# Altium schematic symbol library Papilio_DUO_1.SCHLIB: 38 symbols
Pins are listed as number, name and electrical type; pins without a type are passive.

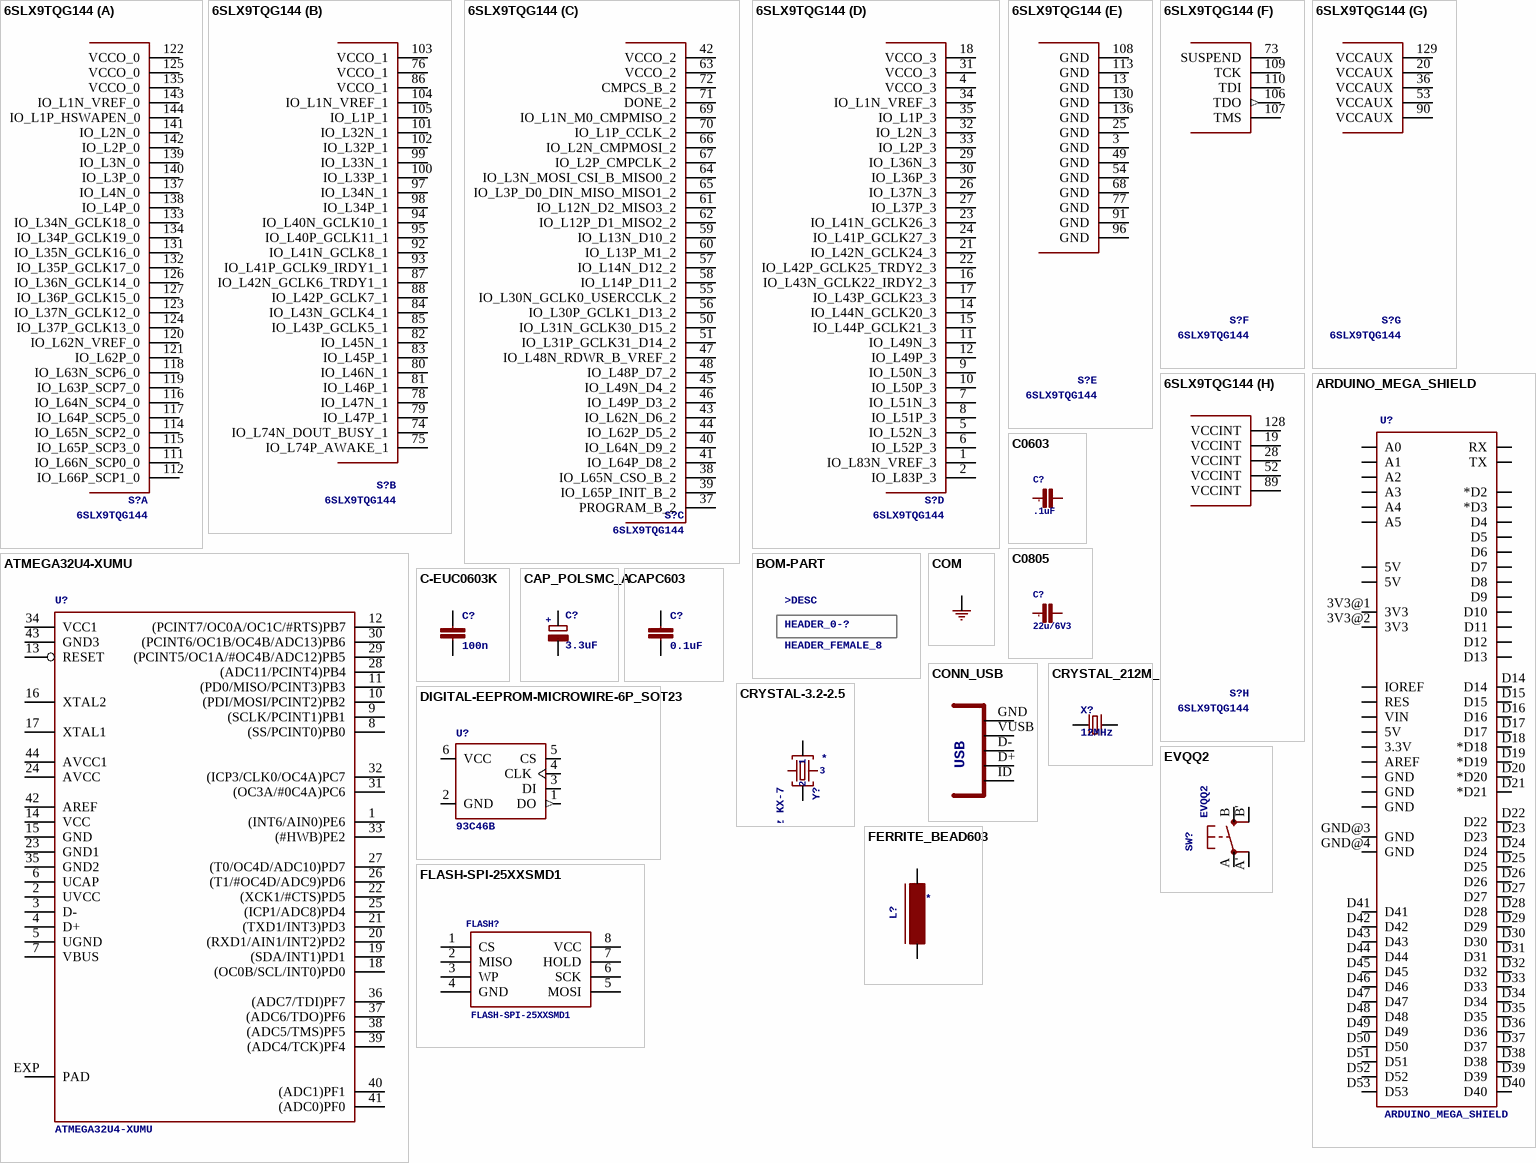
[diagram p0: symbols 6SLX9TQG144 to FLASH-SPI-25XXSMD1]

## 6SLX9TQG144
designator S?
Xilinx FPGA: 6SLX9TQG144; PARTNO: *
footprint TQ144
part A pins: 111 IO_L66N_SCP0_0, 112 IO_L66P_SCP1_0, 114 IO_L65N_SCP2_0, 115 IO_L65P_SCP3_0, 116 IO_L64N_SCP4_0, 117 IO_L64P_SCP5_0, 118 IO_L63N_SCP6_0, 119 IO_L63P_SCP7_0, 120 IO_L62N_VREF_0, 121 IO_L62P_0, 122 VCCO_0, 123 IO_L37N_GCLK12_0, 124 IO_L37P_GCLK13_0, 125 VCCO_0, 126 IO_L36N_GCLK14_0, 127 IO_L36P_GCLK15_0, 131 IO_L35N_GCLK16_0, 132 IO_L35P_GCLK17_0, 133 IO_L34N_GCLK18_0, 134 IO_L34P_GCLK19_0, 135 VCCO_0, 137 IO_L4N_0, 138 IO_L4P_0, 139 IO_L3N_0, 140 IO_L3P_0, 141 IO_L2N_0, 142 IO_L2P_0, 143 IO_L1N_VREF_0, 144 IO_L1P_HSWAPEN_0
part B pins: 74 IO_L74N_DOUT_BUSY_1, 75 IO_L74P_AWAKE_1, 76 VCCO_1, 78 IO_L47N_1, 79 IO_L47P_1, 80 IO_L46N_1, 81 IO_L46P_1, 82 IO_L45N_1, 83 IO_L45P_1, 84 IO_L43N_GCLK4_1, 85 IO_L43P_GCLK5_1, 86 VCCO_1, 87 IO_L42N_GCLK6_TRDY1_1, 88 IO_L42P_GCLK7_1, 92 IO_L41N_GCLK8_1, 93 IO_L41P_GCLK9_IRDY1_1, 94 IO_L40N_GCLK10_1, 95 IO_L40P_GCLK11_1, 97 IO_L34N_1, 98 IO_L34P_1, 99 IO_L33N_1, 100 IO_L33P_1, 101 IO_L32N_1, 102 IO_L32P_1, 103 VCCO_1, 104 IO_L1N_VREF_1, 105 IO_L1P_1
part C pins: 37 PROGRAM_B_2, 38 IO_L65N_CSO_B_2, 39 IO_L65P_INIT_B_2, 40 IO_L64N_D9_2, 41 IO_L64P_D8_2, 42 VCCO_2, 43 IO_L62N_D6_2, 44 IO_L62P_D5_2, 45 IO_L49N_D4_2, 46 IO_L49P_D3_2, 47 IO_L48N_RDWR_B_VREF_2, 48 IO_L48P_D7_2, 50 IO_L31N_GCLK30_D15_2, 51 IO_L31P_GCLK31_D14_2, 55 IO_L30N_GCLK0_USERCCLK_2, 56 IO_L30P_GCLK1_D13_2, 57 IO_L14N_D12_2, 58 IO_L14P_D11_2, 59 IO_L13N_D10_2, 60 IO_L13P_M1_2, 61 IO_L12N_D2_MISO3_2, 62 IO_L12P_D1_MISO2_2, 63 VCCO_2, 64 IO_L3N_MOSI_CSI_B_MISO0_2, 65 IO_L3P_D0_DIN_MISO_MISO1_2, 66 IO_L2N_CMPMOSI_2, 67 IO_L2P_CMPCLK_2, 69 IO_L1N_M0_CMPMISO_2, 70 IO_L1P_CCLK_2, 71 DONE_2, 72 CMPCS_B_2
part D pins: 1 IO_L83N_VREF_3, 2 IO_L83P_3, 4 VCCO_3, 5 IO_L52N_3, 6 IO_L52P_3, 7 IO_L51N_3, 8 IO_L51P_3, 9 IO_L50N_3, 10 IO_L50P_3, 11 IO_L49N_3, 12 IO_L49P_3, 14 IO_L44N_GCLK20_3, 15 IO_L44P_GCLK21_3, 16 IO_L43N_GCLK22_IRDY2_3, 17 IO_L43P_GCLK23_3, 18 VCCO_3, 21 IO_L42N_GCLK24_3, 22 IO_L42P_GCLK25_TRDY2_3, 23 IO_L41N_GCLK26_3, 24 IO_L41P_GCLK27_3, 26 IO_L37N_3, 27 IO_L37P_3, 29 IO_L36N_3, 30 IO_L36P_3, 31 VCCO_3, 32 IO_L2N_3, 33 IO_L2P_3, 34 IO_L1N_VREF_3, 35 IO_L1P_3
part E pins: 3 GND (power), 13 GND (power), 25 GND (power), 49 GND (power), 54 GND (power), 68 GND (power), 77 GND (power), 91 GND (power), 96 GND (power), 108 GND (power), 113 GND (power), 130 GND (power), 136 GND (power)
part F pins: 73 SUSPEND, 106 TDO (out), 107 TMS, 109 TCK, 110 TDI
part G pins: 20 VCCAUX, 36 VCCAUX, 53 VCCAUX, 90 VCCAUX, 129 VCCAUX
part H pins: 19 VCCINT, 28 VCCINT, 52 VCCINT, 89 VCCINT, 128 VCCINT

## ARDUINO_MEGA_SHIELD
designator U?
BOM: *
footprint ARDUINO_MEGA_SHIELD
pins: 3.3V, 3V3@1 3V3 (oe), 3V3@2 3V3 (oe), 5V@0 5V (power), 5V@1 5V (power), 5V@2 5V (power), A0, A1, A2, A3, A4, A5, AREF, D2 *D2, D3 *D3, D4, D5, D6, D7, D8, D9, D10, D11, D12, D13, D14, D15, D16, D17, D18 *D18, D19 *D19, D20 *D20, D21 *D21, D22, D23, D24, D25, D26, D27, D28, D29, D30, D31, D32, D33, D34, D35, D36, D37, D38, D39, D40, D41, D42, D43, D44, D45, D46, D47, D48, D49, D50, D51, D52, D53, GND@0 GND (oe), GND@1 GND (oe), GND@2 GND (oe), GND@3 GND (oe), GND@4 GND (oe), IOREF, RES, RX, TX, VIN

## ATMEGA32U4-XUMU
designator U?
PARTNO: *
footprint QFN44ML7X7
pins: 1 (INT6/AIN0)PE6, 2 UVCC (power), 3 D-, 4 D+, 5 UGND (power), 6 UCAP, 7 VBUS, 8 (SS/PCINT0)PB0, 9 (SCLK/PCINT1)PB1, 10 (PDI/MOSI/PCINT2)PB2, 11 (PD0/MISO/PCINT3)PB3, 12 (PCINT7/OC0A/OC1C/#RTS)PB7, 13 RESET, 14 VCC (power), 15 GND (power), 16 XTAL2, 17 XTAL1, 18 (OC0B/SCL/INT0)PD0, 19 (SDA/INT1)PD1, 20 (RXD1/AIN1/INT2)PD2, 21 (TXD1/INT3)PD3, 22 (XCK1/#CTS)PD5, 23 GND1 (power), 24 AVCC (power), 25 (ICP1/ADC8)PD4, 26 (T1/#OC4D/ADC9)PD6, 27 (T0/OC4D/ADC10)PD7, 28 (ADC11/PCINT4)PB4, 29 (PCINT5/OC1A/#OC4B/ADC12)PB5, 30 (PCINT6/OC1B/OC4B/ADC13)PB6, 31 (OC3A/#0C4A)PC6, 32 (ICP3/CLK0/OC4A)PC7, 33 (#HWB)PE2, 34 VCC1 (power), 35 GND2 (power), 36 (ADC7/TDI)PF7, 37 (ADC6/TDO)PF6, 38 (ADC5/TMS)PF5, 39 (ADC4/TCK)PF4, 40 (ADC1)PF1, 41 (ADC0)PF0, 42 AREF (power), 43 GND3 (power), 44 AVCC1 (power), EXP PAD (power)

## BOM-PART
designator HEADER_0-?, comment HEADER_FEMALE_8  DESC: >DESC
BOM ENTRY   Special BOM entry-only specifier field.; PARTNO: PPTC081LFBN-RC; BOM: INCLUDE; QTY: 1

## C0603
designator C?, comment .1uF
CAPACITOR, European symbol; PARTNO: *
footprint 0603
pins: 1, 2

## C0805
designator C?, comment 22u/6V3
CAPACITOR, European symbol; PARTNO: *
footprint 0805
pins: 1, 2

## C-EUC0603K
designator C?, comment 100n
CAPACITOR, European symbol; PARTNO: *
footprint C0603K
pins: 1, 2

## CAP_POLSMC_A
designator C?, comment 3.3uF
PARTNO: *; +: +
footprint SMC_A
pins: +, -

## CAPC603
designator C?, comment 0.1uF
PARTNO: *
footprint C603
pins: 1, 2

## COM
designator U$?  (value not drawn)
pins: ?1 COM (oe)

## CONN_USB
designator FPGAUSB?  (value not drawn)
USB connector; PARTNO: *; USB: USB
footprint CONN_USB_MINI-B
pins: D+, D-, GND, ID USBID, VUSB

## CRYSTAL-3.2-2.5
designator Y?, comment 16MHz KX-7
NAME: *; PARTNO: *; 1: 1; 2: 2; 3: 3
footprint CRYSTAL-3.2-2.5
pins: 1 C1, 2 GND, 3 C2, 4 GND

## CRYSTAL_212M_
designator X?, comment 12MHz
PARTNO: *
footprint 4X6
pins: 1 X1, 2 X2

## DIGITAL-EEPROM-MICROWIRE-6P_SOT23
designator U?, comment 93C46B
PARTNO: *
footprint SOT23-6
pins: 1 DO (out), 2 GND (power), 3 DI, 4 CLK, 5 CS, 6 VCC

## EVQQ2
designator SW?
SMT 6mm switch, EVQQ2 series    http://www.ladyada.net/library/eagle; PARTNO: *
footprint EVQ-Q2
pins: A P, A' P1, B S, B' S1

## FERRITE_BEAD603
designator L?  (value not drawn)
NAME: *; PARTNO: *
footprint FB603
pins: 1, 2

## FLASH-SPI-25XXSMD1
designator FLASH?
SPI Flash; PARTNO: *
footprint SO08-EIAJ
pins: 1 CS, 2 MISO, 3 WP, 4 GND, 5 MOSI, 6 SCK, 7 HOLD, 8 VCC

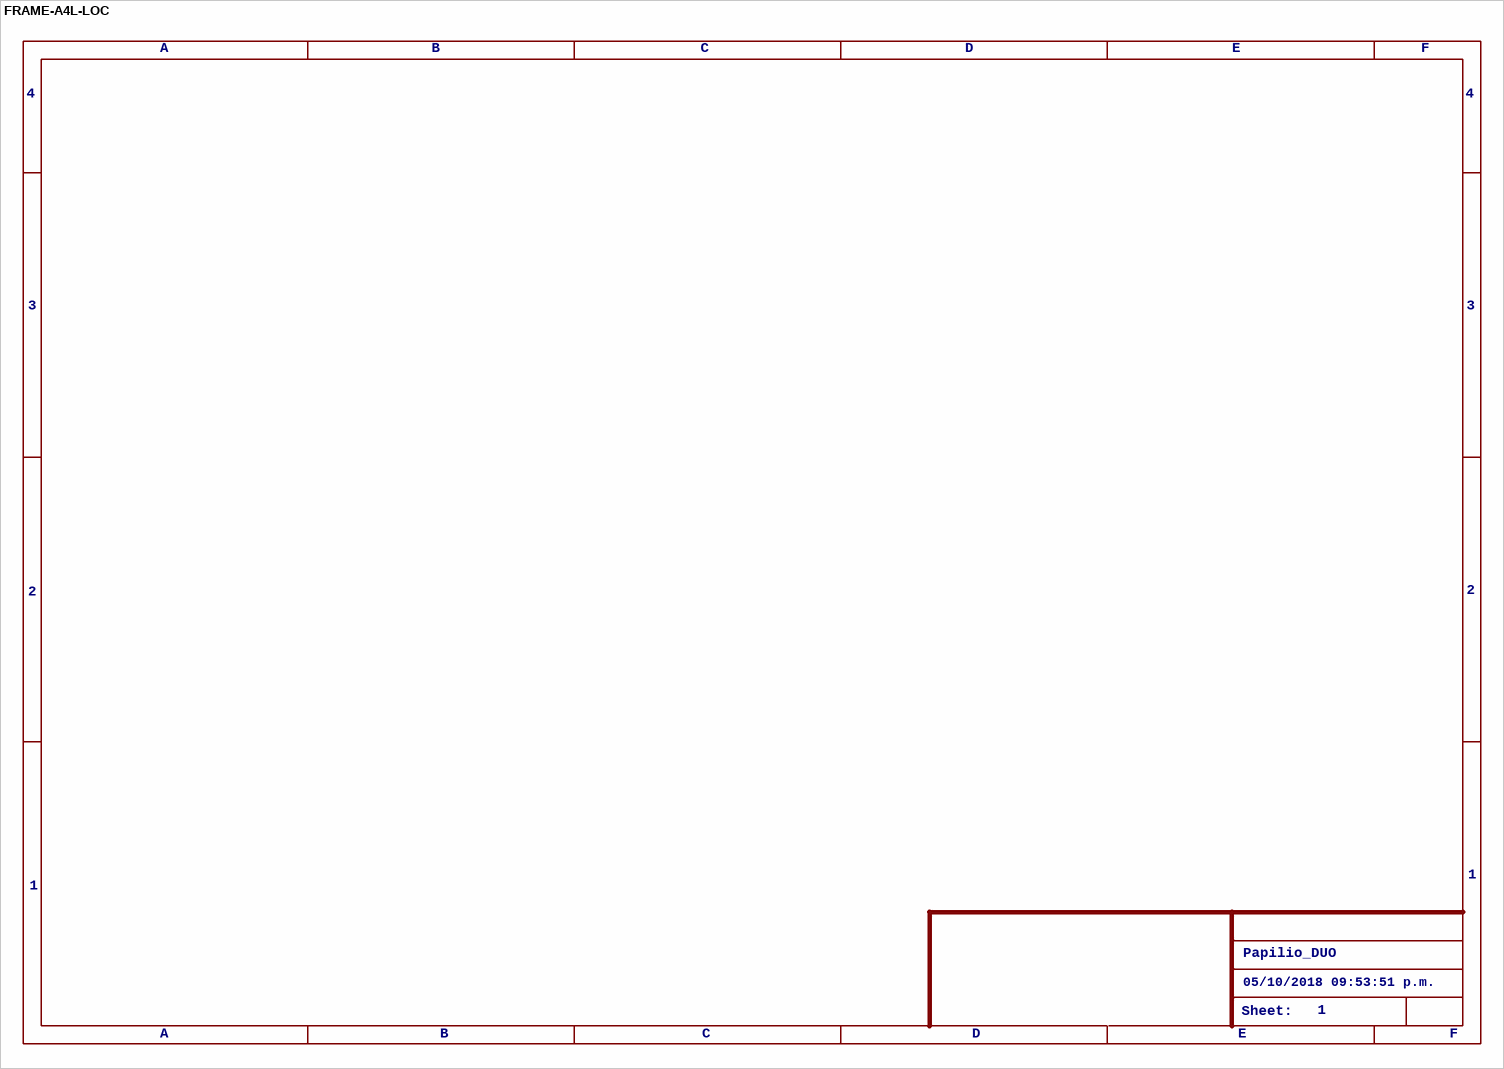
[diagram p1: symbol FRAME-A4L-LOC]

## FRAME-A4L-LOC
designator FRAME?  DRAWING_NAME: Papilio_DUO  LAST_DATE_TIME: 05/10/2018 09:53:51 p.m.  SHEET: 1  Sheet: Sheet:  (hidden comment: FRAME-A4L-LOC)
FRAME   DIN A4, landscape with location and doc. field; A: A; B: B; C: C; D: D; E: E; F: F; 1: 1; 2: 2; 3: 3; 4: 4

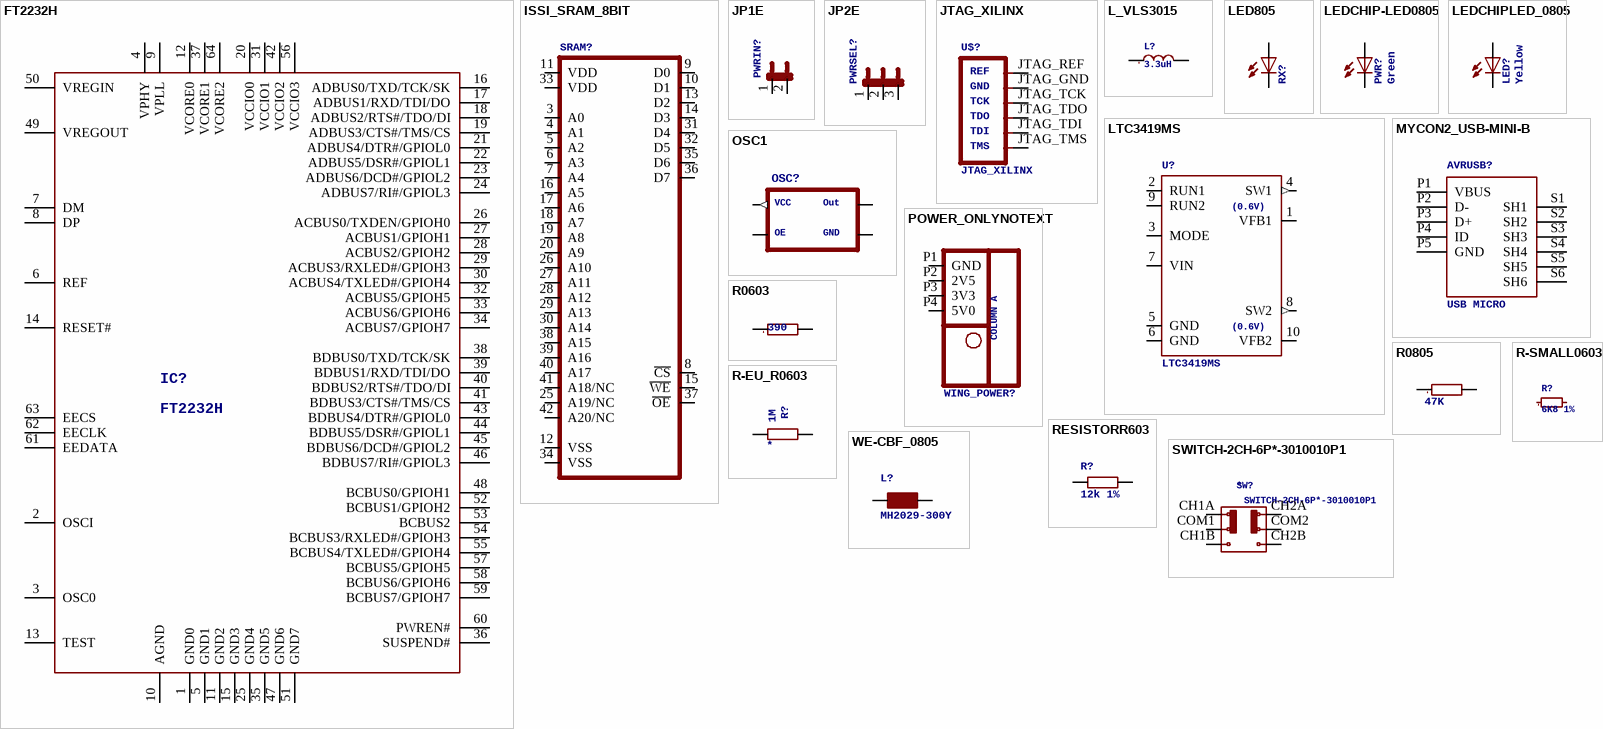
[diagram p2: symbols FT2232H to WE-CBF_0805]

## FT2232H
designator IC?
DUAL HIGH SPEED USB TO MULTIPURPOSE UART/FIFO IC; PARTNO: *
footprint LQFP64
pins: 1 GND0, 2 OSCI, 3 OSC0, 4 VPHY, 5 GND1, 6 REF, 7 DM, 8 DP, 9 VPLL, 10 AGND, 11 GND2, 12 VCORE0, 13 TEST, 14 RESET#, 15 GND3, 16 ADBUS0/TXD/TCK/SK, 17 ADBUS1/RXD/TDI/DO, 18 ADBUS2/RTS#/TDO/DI, 19 ADBUS3/CTS#/TMS/CS, 20 VCCIO0, 21 ADBUS4/DTR#/GPIOL0, 22 ADBUS5/DSR#/GPIOL1, 23 ADBUS6/DCD#/GPIOL2, 24 ADBUS7/RI#/GPIOL3, 25 GND4, 26 ACBUS0/TXDEN/GPIOH0, 27 ACBUS1/GPIOH1, 28 ACBUS2/GPIOH2, 29 ACBUS3/RXLED#/GPIOH3, 30 ACBUS4/TXLED#/GPIOH4, 31 VCCIO1, 32 ACBUS5/GPIOH5, 33 ACBUS6/GPIOH6, 34 ACBUS7/GPIOH7, 35 GND5, 36 SUSPEND#, 37 VCORE1, 38 BDBUS0/TXD/TCK/SK, 39 BDBUS1/RXD/TDI/DO, 40 BDBUS2/RTS#/TDO/DI, 41 BDBUS3/CTS#/TMS/CS, 42 VCCIO2, 43 BDBUS4/DTR#/GPIOL0, 44 BDBUS5/DSR#/GPIOL1, 45 BDBUS6/DCD#/GPIOL2, 46 BDBUS7/RI#/GPIOL3, 47 GND6, 48 BCBUS0/GPIOH1, 49 VREGOUT, 50 VREGIN, 51 GND7, 52 BCBUS1/GPIOH2, 53 BCBUS2, 54 BCBUS3/RXLED#/GPIOH3, 55 BCBUS4/TXLED#/GPIOH4, 56 VCCIO3, 57 BCBUS5/GPIOH5, 58 BCBUS6/GPIOH6, 59 BCBUS7/GPIOH7, 60 PWREN#, 61 EEDATA, 62 EECLK, 63 EECS, 64 VCORE2

## ISSI_SRAM_8BIT
designator SRAM?  (value not drawn)
PARTNO: *
footprint TSOP44-II
pins: 3 A0, 4 A1, 5 A2, 6 A3, 7 A4, 8 ~{CS}, 9 D0, 10 D1, 11 VDD, 12 VSS, 13 D2, 14 D3, 15 ~{WE}, 16 A5, 17 A6, 18 A7, 19 A8, 20 A9, 25 A19/NC, 26 A10, 27 A11, 28 A12, 29 A13, 30 A14, 31 D4, 32 D5, 33 VDD, 34 VSS, 35 D6, 36 D7, 37 ~{OE}, 38 A15, 39 A16, 40 A17, 41 A18/NC, 42 A20/NC

## JP1E
designator PWRIN?  (value not drawn)
JUMPER; PARTNO: *
footprint JP1
pins: 1, 2

## JP2E
designator PWRSEL?  (value not drawn)
JUMPER; PARTNO: *
footprint JP2
pins: 1, 2, 3

## JTAG_XILINX
designator U$?
BOM: *; REF: REF; GND: GND; TCK: TCK; TDO: TDO; TDI: TDI; TMS: TMS
footprint JTAG
pins: JTAG_GND, JTAG_REF, JTAG_TCK, JTAG_TDI, JTAG_TDO, JTAG_TMS

## L_VLS3015
designator L?, comment 3.3uH
INDUCTOR, European symbol; PARTNO: *
footprint VLS3015
pins: 1, 2

## LED805
designator RX?  (value not drawn)
PARTNO: *
footprint LED-805
pins: A, C

## LEDCHIP-LED0805
designator PWR?, comment Green
LED   OSRAM: - CHIPLED LG R971, LG N971, LY N971, LG Q971, LY Q971, LO R971, LY R971 LH N974, LH R974 LS Q976, LO Q976, LY Q976 LO Q996 - Hyper CHIPLED LW Q18S LB Q993, LB Q99A, LB R99A - SideLED LS A670, LO A670, LY A670, LG A670, LP A670 LB A673, LV A673, LT A673, LW A673 LH A674 LY A675 LS A676, LA A676, LO A676, LY A676, LW A676 LS A679, LY A679, LG A679 -  Hyper Micro SIDELEDï¿½ LS Y876, LA Y876, LO Y876, LY Y876 LT Y87S - SmartLED LW L88C, LW L88S LB L89C, LB L89S, LG L890 LS L89K, LO L89K, LY L89K LS L896, LA L896, LO L896, LY L896 - TOPLED LS T670, LO T670, LY T670, LG T670, LP T670 LSG T670, LSP T670, LSY T670, LOP T670, LYG T670 LG T671, LOG T671, LSG T671 LB T673, LV T673, LT T673, LW T673 LH T674 LS T676, LA T676, LO T676, LY T676, LB T676, LH T676, LSB T676, LW T676 LB T67C, LV T67C, LT T67C, LS T67K, LO T67K, LY T67K, LW E67C LS E67B, LA E67B, LO E67B, LY E67B, LB E67C, LV E67C, LT E67C LW T67C LS T679, LY T679, LG T679 LS T770, LO T770, LY T770, LG T770, LP T770 LB T773, LV T773, LT T773, LW T773 LH T774 LS E675, LA E675, LY E675, LS T675 LS T776, LA T776, LO T776, LY T776, LB T776 LHGB T686 LT T68C, LB T68C - Hyper Mini TOPLEDï¿½ LB M676 - Mini TOPLED Santanaï¿½ LG M470 LS M47K, LO M47K, LY M47K    Source: http://www.osram.convergy.de   LUXEON: - LUMILEDï¿½ LXK2-PW12-R00, LXK2-PW12-S00, LXK2-PW14-U00, LXK2-PW14-V00 LXK2-PM12-R00, LXK2-PM12-S00, LXK2-PM14-U00 LXK2-PE12-Q00, LXK2-PE12-R00, LXK2-PE12-S00, LXK2-PE14-T00, LXK2-PE14-U00 LXK2-PB12-K00, LXK2-PB12-L00, LXK2-PB12-M00, LXK2-PB14-N00, LXK2-PB14-P00, LXK2-PB14-Q00 LXK2-PR12-L00, LXK2-PR12-M00, LXK2-PR14-Q00, LXK2-PR14-R00 LXK2-PD12-Q00, LXK2-PD12-R00, LXK2-PD12-S00 LXK2-PH12-R00, LXK2-PH12-S00 LXK2-PL12-P00, LXK2-PL12-Q00, LXK2-PL12-R00    Source: www.luxeon.com   KINGBRIGHT:   KA-3528ASYC Source: www.kingbright.com; PARTNO: *
footprint CHIP-LED0805
pins: A, C

## LEDCHIPLED_0805
designator LED?, comment Yellow
LED   OSRAM: - CHIPLED LG R971, LG N971, LY N971, LG Q971, LY Q971, LO R971, LY R971 LH N974, LH R974 LS Q976, LO Q976, LY Q976 LO Q996 - Hyper CHIPLED LW Q18S LB Q993, LB Q99A, LB R99A - SideLED LS A670, LO A670, LY A670, LG A670, LP A670 LB A673, LV A673, LT A673, LW A673 LH A674 LY A675 LS A676, LA A676, LO A676, LY A676, LW A676 LS A679, LY A679, LG A679 -  Hyper Micro SIDELEDï¿½ LS Y876, LA Y876, LO Y876, LY Y876 LT Y87S - SmartLED LW L88C, LW L88S LB L89C, LB L89S, LG L890 LS L89K, LO L89K, LY L89K LS L896, LA L896, LO L896, LY L896 - TOPLED LS T670, LO T670, LY T670, LG T670, LP T670 LSG T670, LSP T670, LSY T670, LOP T670, LYG T670 LG T671, LOG T671, LSG T671 LB T673, LV T673, LT T673, LW T673 LH T674 LS T676, LA T676, LO T676, LY T676, LB T676, LH T676, LSB T676, LW T676 LB T67C, LV T67C, LT T67C, LS T67K, LO T67K, LY T67K, LW E67C LS E67B, LA E67B, LO E67B, LY E67B, LB E67C, LV E67C, LT E67C LW T67C LS T679, LY T679, LG T679 LS T770, LO T770, LY T770, LG T770, LP T770 LB T773, LV T773, LT T773, LW T773 LH T774 LS E675, LA E675, LY E675, LS T675 LS T776, LA T776, LO T776, LY T776, LB T776 LHGB T686 LT T68C, LB T68C - Hyper Mini TOPLEDï¿½ LB M676 - Mini TOPLED Santanaï¿½ LG M470 LS M47K, LO M47K, LY M47K    Source: http://www.osram.convergy.de   LUXEON: - LUMILEDï¿½ LXK2-PW12-R00, LXK2-PW12-S00, LXK2-PW14-U00, LXK2-PW14-V00 LXK2-PM12-R00, LXK2-PM12-S00, LXK2-PM14-U00 LXK2-PE12-Q00, LXK2-PE12-R00, LXK2-PE12-S00, LXK2-PE14-T00, LXK2-PE14-U00 LXK2-PB12-K00, LXK2-PB12-L00, LXK2-PB12-M00, LXK2-PB14-N00, LXK2-PB14-P00, LXK2-PB14-Q00 LXK2-PR12-L00, LXK2-PR12-M00, LXK2-PR14-Q00, LXK2-PR14-R00 LXK2-PD12-Q00, LXK2-PD12-R00, LXK2-PD12-S00 LXK2-PH12-R00, LXK2-PH12-S00 LXK2-PL12-P00, LXK2-PL12-Q00, LXK2-PL12-R00    Source: www.luxeon.com   KINGBRIGHT:   KA-3528ASYC Source: www.kingbright.com; PARTNO: *
footprint CHIPLED_0805
pins: A, C

## LTC3419MS
designator U?
Dual Monolithic 600mA Synchronous Step-Down Regulator; PARTNO: *; (0.6V): (0.6V)
footprint MSOP10
pins: 1 VFB1, 2 RUN1, 3 MODE, 4 SW1 (out), 5 GND (power), 6 GND (power), 7 VIN, 8 SW2 (out), 9 RUN2, 10 VFB2

## MYCON2_USB-MINI-B
designator AVRUSB?, comment USB MICRO
PARTNO: *
footprint CON2_USB_MICRO_B_AT
pins: P1 VBUS (power), P2 D-, P3 D+, P4 ID, P5 GND, S1 SH1, S2 SH2, S3 SH3, S4 SH4, S5 SH5, S6 SH6

## OSC1
designator OSC?  (value not drawn)
PARTNO: *; OE: OE; GND: GND; VCC: VCC; Out: Out
footprint OSC1
pins: 1@1 OE, 2@2 GND (power), 3@3 OUT, 4@4 VCC (out)

## POWER_ONLYNOTEXT
designator WING_POWER?, comment COLUMNA: COLUMN A  (hidden comment: HEADER_FEMALE_4)
PARTNO: *
footprint POWER_NO_TEXT
pins: P1 GND (power), P2 2V5, P3 3V3, P4 5V0

## R0603
designator R?, comment 390
RESISTOR, European symbol; PARTNO: *
footprint 0603
pins: 1, 2

## R0805
designator R?, comment 47K
RESISTOR, European symbol; PARTNO: *
footprint 0805
pins: 1, 2

## R-EU_R0603
designator R?, comment 1M
RESISTOR, European symbol; NAME: *; PARTNO: *
footprint R0603-ROUND
pins: 1, 2

## R-SMALL0603
designator R?, comment 6K8 1%
PARTNO: *
footprint 0603
pins: 1, 2

## RESISTORR603
designator R?, comment 12k 1%
PARTNO: *
footprint R603
pins: 1, 2

## SWITCH-2CH-6P*-3010010P1
designator SW?
MS-22D18 G2 ROHS; NAME: *; PARTNO: *
footprint 6P-2CH-2.54-9.1X3.5X3.2+2H
pins: CH1A, CH1B, CH2A, CH2B, COM1, COM2

## WE-CBF_0805
designator L?, comment MH2029-300Y
SMD EMI Suppression Ferrite Beads - excellent anti-EMI properties - low DCR - impedances till 3000 ohms - rated current up to 6 A; PARTNO: *
footprint 0805
pins: 1, 2